# Altium schematic symbol library CC25xx.SchLib: 10 symbols
Pins are listed as number, name and electrical type; pins without a type are passive.

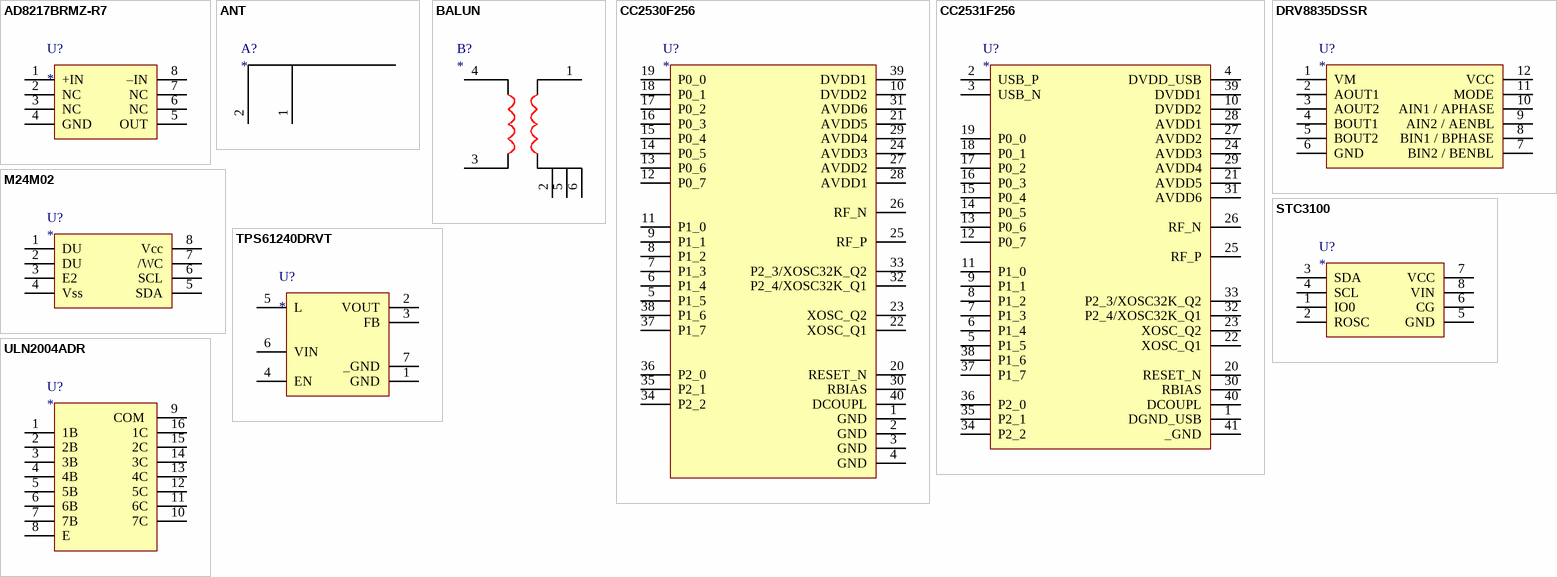
[diagram p0: symbols AD8217BRMZ-R7 to ULN2004ADR]

## AD8217BRMZ-R7
designator U?
IC CURRENT MONITOR HI SIDE 8MSOP; Manufacturer Part Number: AD8217BRMZ-R7; Mount: 1
pins: 1 +IN, 2 NC, 3 NC, 4 GND, 5 OUT, 6 NC, 7 NC, 8 –IN

## ANT
designator A?
Mount: 1; Manufacturer Part Number: *
pins: 1, 2

## BALUN
designator B?
BALUN JTI MATCHED ZIGBEE; Manufacturer Part Number: 2450BM15A0002E; Mount: 1
pins: 1, 2, 3, 4, 5, 6

## CC2530F256
designator U?
IC SOC IEEE 802.15.4/ZIG 40VQFN; Manufacturer Part Number: CC2530F256RHAT; Mount: 1
pins: 1 GND, 2 GND, 3 GND, 4 GND, 5 P1_5, 6 P1_4, 7 P1_3, 8 P1_2, 9 P1_1, 10 DVDD2, 11 P1_0, 12 P0_7, 13 P0_6, 14 P0_5, 15 P0_4, 16 P0_3, 17 P0_2, 18 P0_1, 19 P0_0, 20 RESET_N, 21 AVDD5, 22 XOSC_Q1, 23 XOSC_Q2, 24 AVDD3, 25 RF_P, 26 RF_N, 27 AVDD2, 28 AVDD1, 29 AVDD4, 30 RBIAS, 31 AVDD6, 32 P2_4/XOSC32K_Q1, 33 P2_3/XOSC32K_Q2, 34 P2_2, 35 P2_1, 36 P2_0, 37 P1_7, 38 P1_6, 39 DVDD1, 40 DCOUPL

## CC2531F256
designator U?
IC SOC IEEE 802.15.4/ZIG 40VQFN; Manufacturer Part Number: CC2531F256RHAT; Mount: 1
pins: 1 DGND_USB, 2 USB_P, 3 USB_N, 4 DVDD_USB, 5 P1_5, 6 P1_4, 7 P1_3, 8 P1_2, 9 P1_1, 10 DVDD2, 11 P1_0, 12 P0_7, 13 P0_6, 14 P0_5, 15 P0_4, 16 P0_3, 17 P0_2, 18 P0_1, 19 P0_0, 20 RESET_N, 21 AVDD5, 22 XOSC_Q1, 23 XOSC_Q2, 24 AVDD3, 25 RF_P, 26 RF_N, 27 AVDD2, 28 AVDD1, 29 AVDD4, 30 RBIAS, 31 AVDD6, 32 P2_4/XOSC32K_Q1, 33 P2_3/XOSC32K_Q2, 34 P2_2, 35 P2_1, 36 P2_0, 37 P1_7, 38 P1_6, 39 DVDD1, 40 DCOUPL, 41 _GND

## DRV8835DSSR
designator U?
IC MOTOR DRIVER PAR 12WSON; Manufacturer Part Number: DRV8835DSSR; Mount: 1
pins: 1 VM, 2 AOUT1, 3 AOUT2, 4 BOUT1, 5 BOUT2, 6 GND, 7 BIN2 / BENBL, 8 BIN1 / BPHASE, 9 AIN2 / AENBL, 10 AIN1 / APHASE, 11 MODE, 12 VCC

## M24M02
designator U?
IC EEPROM 2MBIT 1MHZ 8SO; Manufacturer Part Number: M24M02-DRMN6TP; Mount: *
pins: 1 DU, 2 DU, 3 E2, 4 Vss, 5 SDA, 6 SCL, 7 /WC, 8 Vcc

## STC3100
designator U?
IC BATTERY MON W/GAUGE 8-DFN; Manufacturer Part Number: STC3100IQT; Mount: 1
pins: 1 IO0, 2 ROSC, 3 SDA, 4 SCL, 5 GND, 6 CG, 7 VCC, 8 VIN

## TPS61240DRVT
designator U?
IC REG BOOST SYNC 5V 0.45A 6SON; Manufacturer Part Number: TPS61240DRVT; Mount: 1
pins: 1 GND, 2 VOUT, 3 FB, 4 EN, 5 L, 6 VIN, 7 _GND

## ULN2004ADR
designator U?
TRANS 7 NPN DARL 50V 500MA 16SO; Manufacturer Part Number: ULN2004ADR; Manufacturer: Texas Instruments; Mount: *
pins: 1 1B, 2 2B, 3 3B, 4 4B, 5 5B, 6 6B, 7 7B, 8 E, 9 COM , 10 7C, 11 6C, 12 5C, 13 4C, 14 3C, 15 2C, 16 1C